# Altium integrated library Silicon Labs Low-Power MCUs.IntLib: 64 symbols (part 2 of 4)
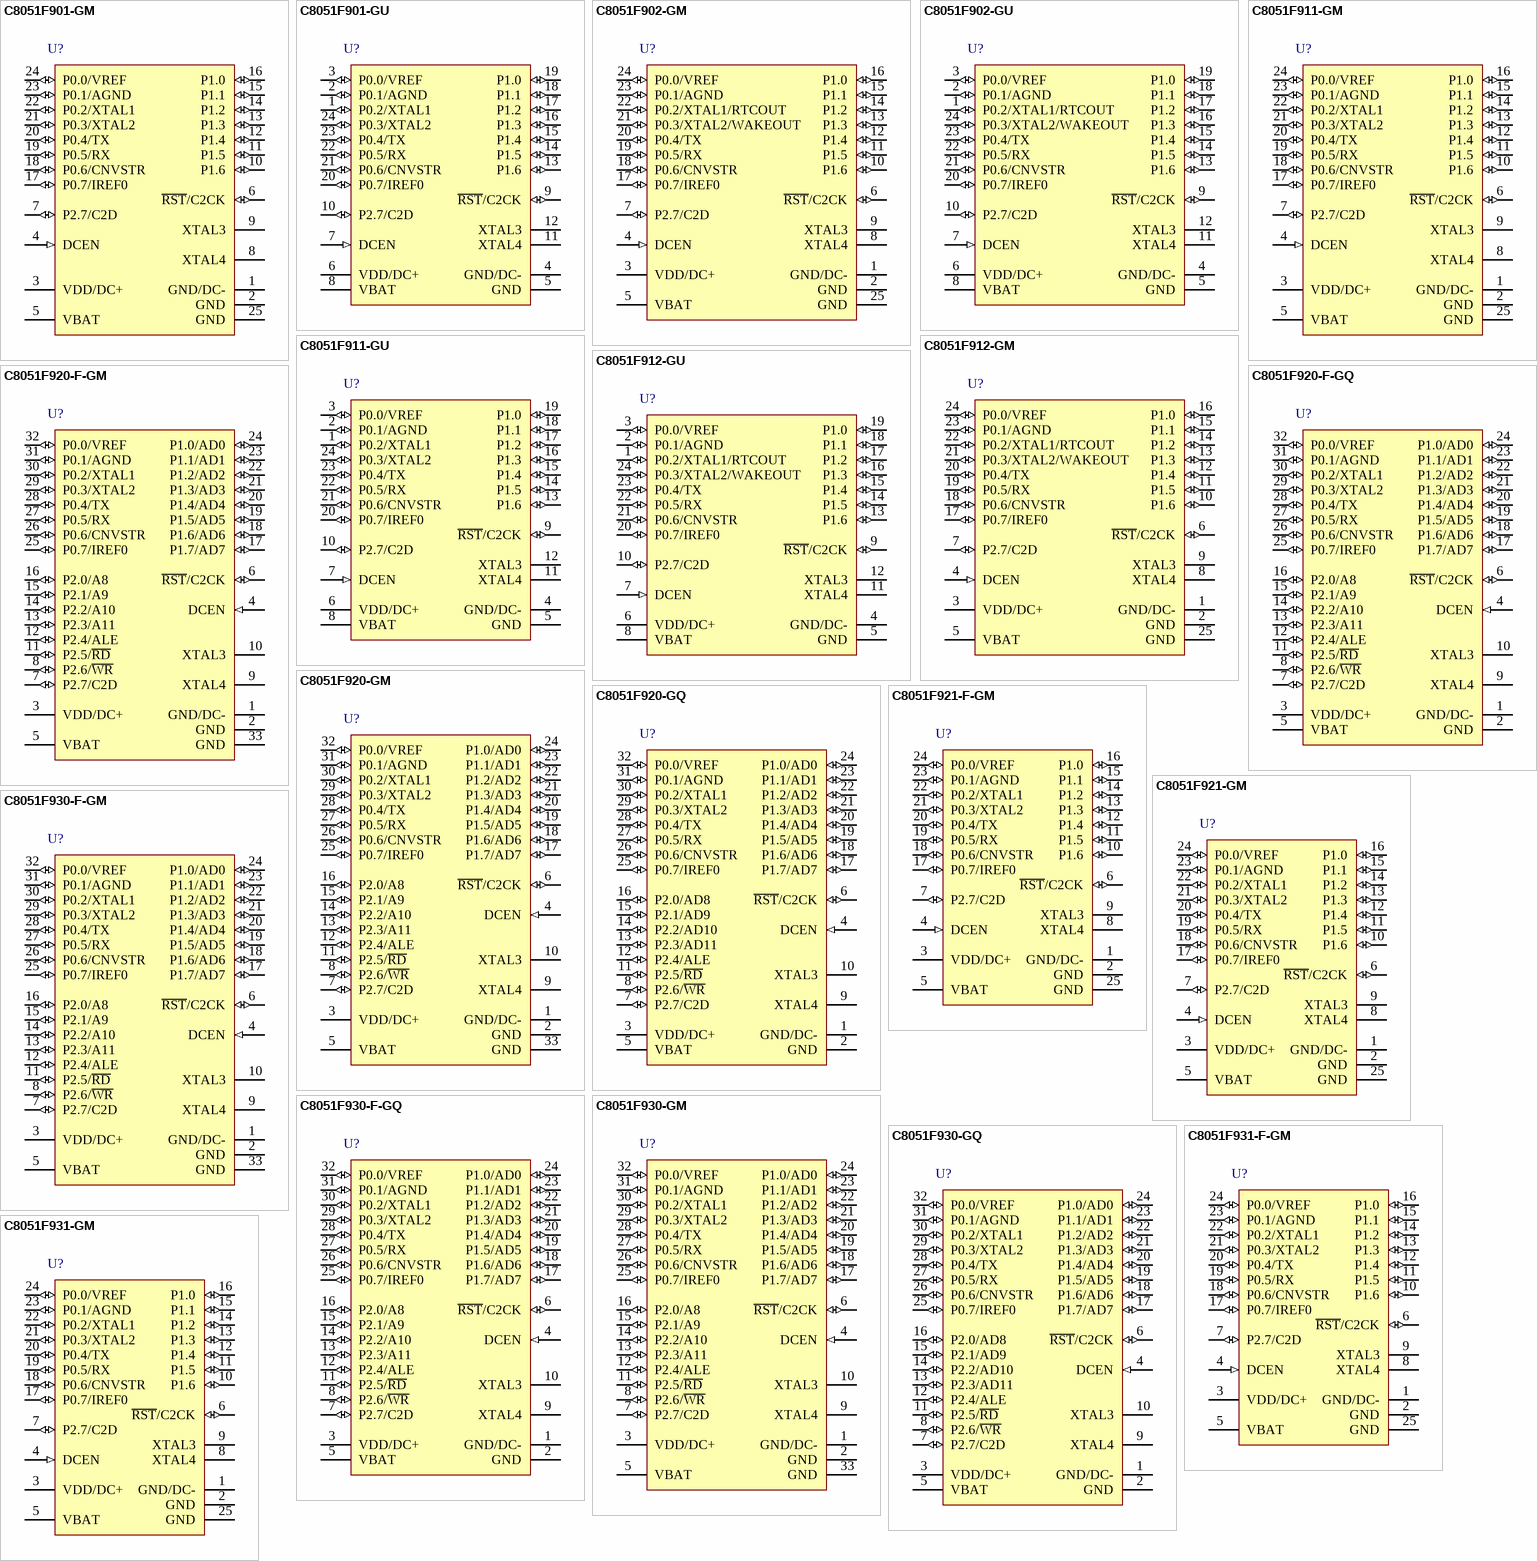
[diagram p6: symbols C8051F901-GM to C8051F931-GM]

## C8051F931-F-GM
designator U?
Single / Dual Battery, 0.9 to 3.6 V, smaRTClock, 10-Bit ADC MCU, 25 MHz, 4.25 kB RAM, 64 kB Flash, -40 to 85 degC, 24-pin QFN; Manufacturer: Silicon Labs; PartNumber: C8051F931-F-GM; ADC 1: 10-bit, 15-ch., 300 ksps; AEC-Q100: FALSE; Comparators: 2; Debug Interface: C2; Dig I/O Pins: 16; Flash: 64 kB; Internal Osc. Accuracy: +/-2%; MCU Core: 8051; MHz: 25; PCA Channels: 6; RAM: 4.25 kB; Temp Sensor: TRUE; Timers (16-bit): 4; Sub-Family: Low-Power MCUs; DatasheetVersion: Rev. 1.3; PackageReference: QFN-24; PackageDescription: 24-Pin Quad-Flat No-Leads Package, Body 4 x 4 mm, Pitch 0.5 mm; Supplier 1: Digi-Key; Supplier Part Number 1: C8051F931-F-GM-ND; Supplier 2: Mouser; Supplier Part Number 2: 634-C8051F931-F-GM; Mounting Technology: Surface Mount; Code_JEDEC: MO-220; Code_IPC: J-STD-020; ComponentLink1Description: Manufacturer URL; ComponentLink1URL: http://www.silabs.com/; ComponentLink2Description: Datasheet; ComponentLink2URL: http://www.silabs.com/Support Documents/TechnicalDocs/C8051F96x.pdf; ComponentLink3Description: Package Specification; ComponentLink3URL: http://www.silabs.com/Support%20Documents/TechnicalDocs/C8051F93x-92x.pdf
footprint SLAB-QFN-24-2675x2675TP_N (QFN, 24-Leads, Body 4x4mm, Pitch 0.5mm, Thermal Pad 2.68x2.68mm, IPC Medium Density)
footprint SLAB-QFN-24-2675x2675TP_L (QFN, 24-Leads, Body 4x4mm, Pitch 0.5mm, Thermal Pad 2.68x2.68mm, IPC High Density)
footprint SLAB-QFN-24-2675x2675TP_M (QFN, 24-Leads, Body 4x4mm, Pitch 0.5mm, Thermal Pad 2.68x2.68mm, IPC Low Density)
pins: 1 GND/DC- (power), 2 GND (power) "Required Ground.", 3 VDD/DC+ (power), 4 DCEN (in) "DC-DC Enable Pin. In single-cell battery mode, this pin  must be connected to VBAT through a 0.68 uH inductor. In dual-cell battery mode, this pin must be connected  directly to ground.", 5 VBAT (power) "Battery Supply Voltage. Must be 0.9 to 1.8 V in single-cell  battery mode and 1.8 to 3.6 V in dual-cell battery mode.", 6 ~{RST}/C2CK (io), 7 P2.7/C2D (io), 8 XTAL4 "SmaRTClock Oscillator Crystal Output. See Section 20 for a complete description.", 9 XTAL3 "SmaRTClock Oscillator Crystal Input. See Section 20 for a complete description", 10 P1.6 (io) "Port 1.6. See Port I/O Section for a complete description", 11 P1.5 (io) "Port 1.5. See Port I/O Section for a complete description.", 12 P1.4 (io) "Port 1.4. See Port I/O Section for a complete description.", 13 P1.3 (io) "Port 1.3. See Port I/O Section for a complete description. May also be used as NSS for SPI1.", 14 P1.2 (io) "Port 1.2. See Port I/O Section for a complete description. May also be used as MOSI for SPI1.", 15 P1.1 (io) "Port 1.1. See Port I/O Section for a complete description. May also be used as MISO for SPI1.", 16 P1.0 (io) "Port 1.0. See Port I/O Section for a complete description.  May also be used as SCK for SPI1.", 17 P0.7/IREF0 (io), 18 P0.6/CNVSTR (io), 19 P0.5/RX (io), 20 P0.4/TX (io), 21 P0.3/XTAL2 (io), 22 P0.2/XTAL1 (io), 23 P0.1/AGND (io), 24 P0.0/VREF (io), 25 GND (power) "Required Ground."

## C8051F931-GM
designator U?
Single / Dual Battery, 0.9 to 3.6 V, smaRTClock, 10-Bit ADC MCU, 25 MHz, 4.25 kB RAM, 64 kB Flash, -40 to 85 degC, 24-pin QFN; Manufacturer: Silicon Labs; PartNumber: C8051F931-GM; ADC 1: 10-bit, 15-ch., 300 ksps; AEC-Q100: FALSE; Comparators: 2; Debug Interface: C2; Dig I/O Pins: 16; Flash: 64 kB; Internal Osc. Accuracy: +/-2%; MCU Core: 8051; MHz: 25; PCA Channels: 6; RAM: 4.25 kB; Temp Sensor: TRUE; Timers (16-bit): 4; Sub-Family: Low-Power MCUs; DatasheetVersion: Rev. 1.3; PackageReference: QFN-24; PackageDescription: 24-Pin Quad-Flat No-Leads Package, Body 4 x 4 mm, Pitch 0.5 mm; Supplier 1: Digi-Key; Supplier Part Number 1: 336-1468-ND; Supplier 2: Mouser; Supplier Part Number 2: 634-C8051F931-GM; Mounting Technology: Surface Mount; Code_JEDEC: MO-220; Code_IPC: J-STD-020; ComponentLink1Description: Manufacturer URL; ComponentLink1URL: http://www.silabs.com/; ComponentLink2Description: Datasheet; ComponentLink2URL: http://www.silabs.com/Support Documents/TechnicalDocs/C8051F93x-92x.pdf; ComponentLink3Description: Package Specification; ComponentLink3URL: http://www.silabs.com/Support%20Documents/TechnicalDocs/C8051F93x-92x.pdf
footprint SLAB-QFN-24-2675x2675TP_N (QFN, 24-Leads, Body 4x4mm, Pitch 0.5mm, Thermal Pad 2.68x2.68mm, IPC Medium Density)
footprint SLAB-QFN-24-2675x2675TP_L (QFN, 24-Leads, Body 4x4mm, Pitch 0.5mm, Thermal Pad 2.68x2.68mm, IPC High Density)
footprint SLAB-QFN-24-2675x2675TP_M (QFN, 24-Leads, Body 4x4mm, Pitch 0.5mm, Thermal Pad 2.68x2.68mm, IPC Low Density)
pins: 1 GND/DC- (power), 2 GND (power) "Required Ground.", 3 VDD/DC+ (power), 4 DCEN (in) "DC-DC Enable Pin. In single-cell battery mode, this pin  must be connected to VBAT through a 0.68 uH inductor. In dual-cell battery mode, this pin must be connected  directly to ground.", 5 VBAT (power) "Battery Supply Voltage. Must be 0.9 to 1.8 V in single-cell  battery mode and 1.8 to 3.6 V in dual-cell battery mode.", 6 ~{RST}/C2CK (io), 7 P2.7/C2D (io), 8 XTAL4 "SmaRTClock Oscillator Crystal Output. See Section 20 for a complete description.", 9 XTAL3 "SmaRTClock Oscillator Crystal Input. See Section 20 for a complete description", 10 P1.6 (io) "Port 1.6. See Port I/O Section for a complete description", 11 P1.5 (io) "Port 1.5. See Port I/O Section for a complete description.", 12 P1.4 (io) "Port 1.4. See Port I/O Section for a complete description.", 13 P1.3 (io) "Port 1.3. See Port I/O Section for a complete description. May also be used as NSS for SPI1.", 14 P1.2 (io) "Port 1.2. See Port I/O Section for a complete description. May also be used as MOSI for SPI1.", 15 P1.1 (io) "Port 1.1. See Port I/O Section for a complete description. May also be used as MISO for SPI1.", 16 P1.0 (io) "Port 1.0. See Port I/O Section for a complete description.  May also be used as SCK for SPI1.", 17 P0.7/IREF0 (io), 18 P0.6/CNVSTR (io), 19 P0.5/RX (io), 20 P0.4/TX (io), 21 P0.3/XTAL2 (io), 22 P0.2/XTAL1 (io), 23 P0.1/AGND (io), 24 P0.0/VREF (io), 25 GND (power) "Required Ground."

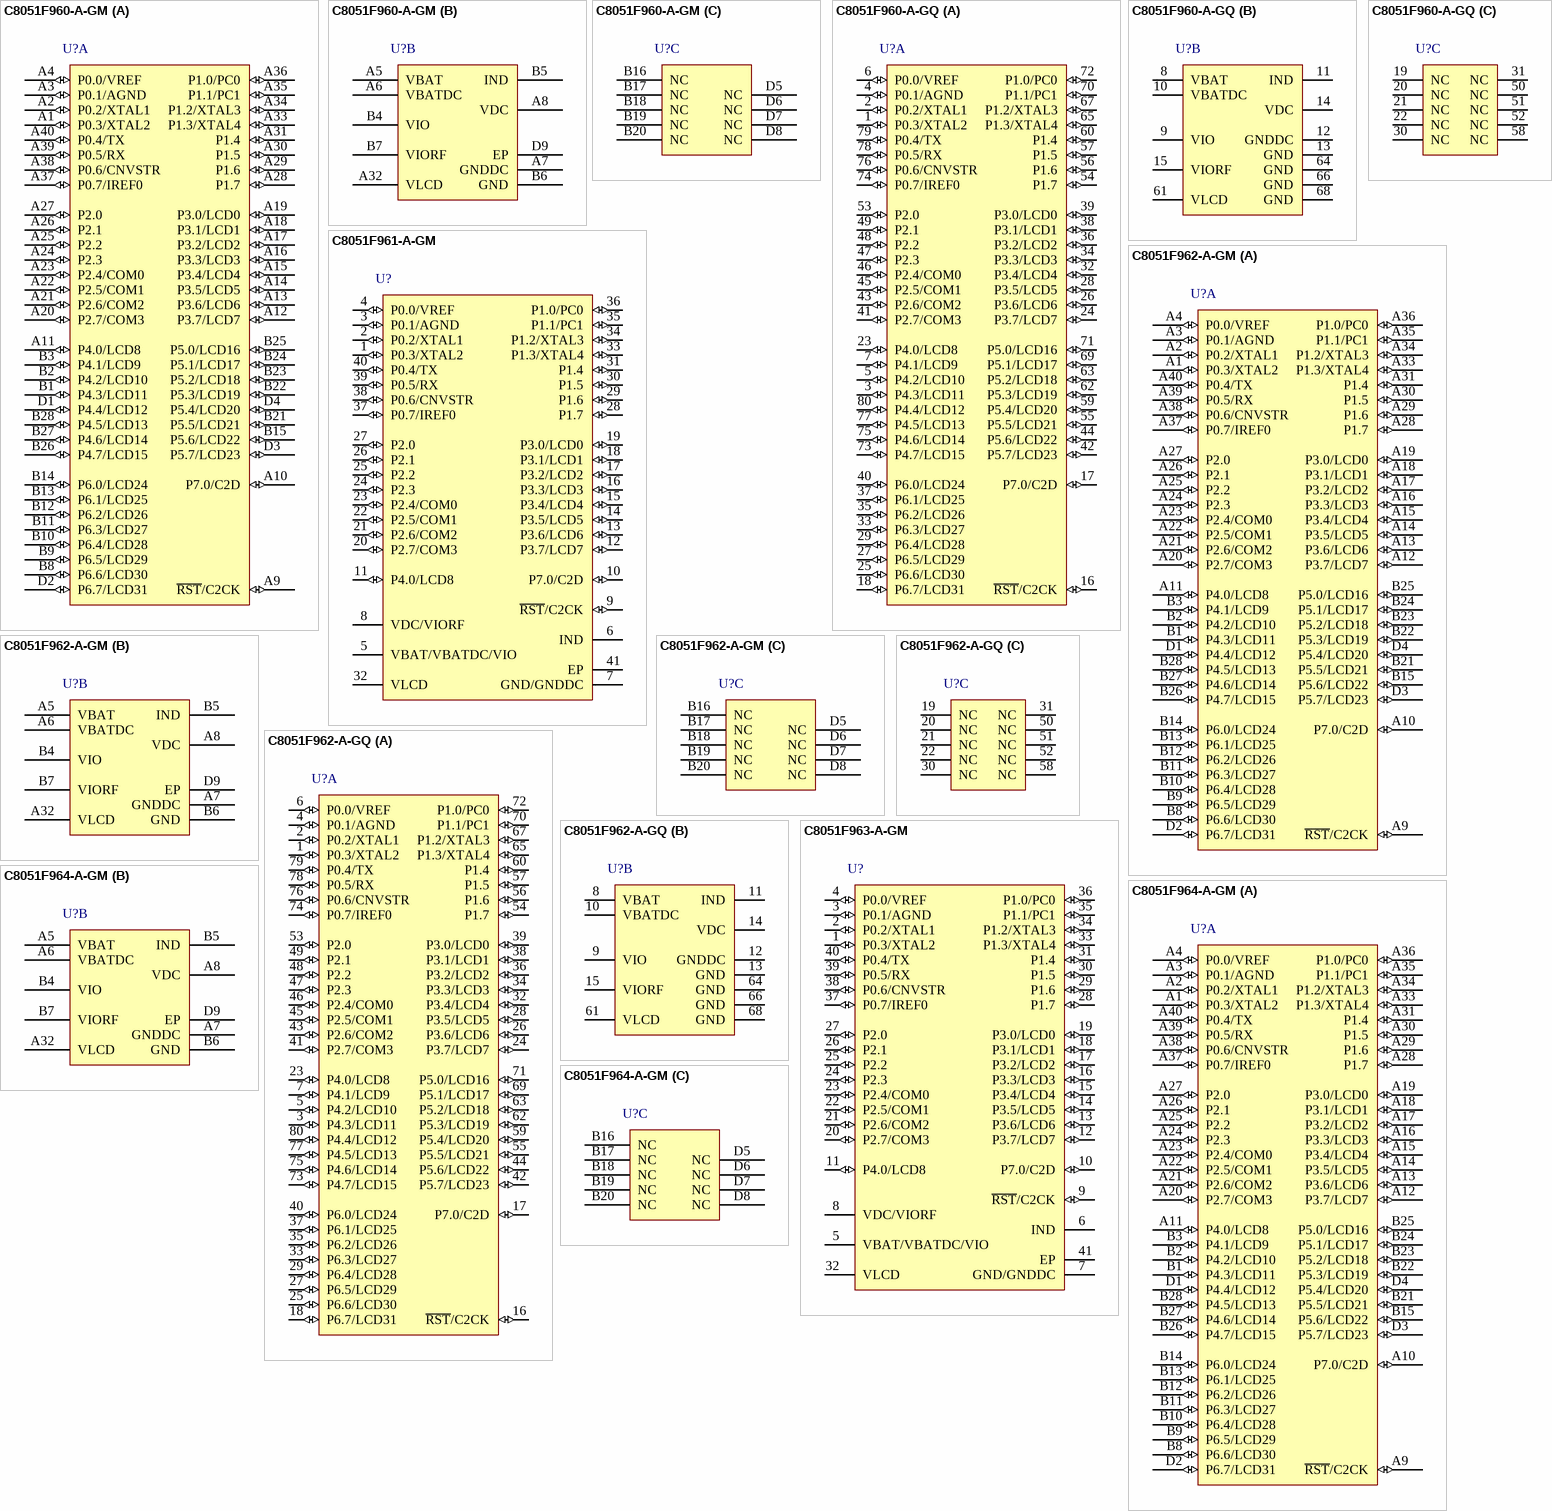
[diagram p1: symbols C8051F960-A-GM to C8051F964-A-GM]

## C8051F960-A-GM
designator U?
Ultra Low Power, LCD MCU Family, 25 MHz, 8.25 kB RAM, 128 kB Flash, -40 to 85 degC, 76-pin DQFN; Manufacturer: Silicon Labs; PartNumber: C8051F960-A-GM; ADC 1: 12-bit, 16-ch., 75 ksps; AEC-Q100: FALSE; Comparators: 2; Debug Interface: C2; Dig I/O Pins: 57; Flash: 128 kB; Internal Osc. Accuracy: +/-2%; MCU Core: 8051; MHz: 25; PCA Channels: 6; RAM: 8.25 KB; Temp Sensor: TRUE; Timers (16-bit): 4; Sub-Family: Low-Power MCUs; DatasheetVersion: Rev. 0.5; PackageReference: DQFN-76; PackageDescription: 76-Pin DQFN, Body 6 x 6 mm, Pitch 0.5 mm; Supplier 1: Digi-Key; Supplier Part Number 1: 336-2238-ND; Supplier 2: Mouser; Supplier Part Number 2: 634-C8051F960-A-GM; Mounting Technology: Surface Mount; Code_IPC: J-STD-020; ComponentLink1Description: Manufacturer URL; ComponentLink1URL: http://www.silabs.com/; ComponentLink2Description: Datasheet; ComponentLink2URL: http://www.silabs.com/Support Documents/TechnicalDocs/C8051F96x.pdf; ComponentLink3Description: Package Specification; ComponentLink3URL: http://www.silabs.com/Support%20Documents/TechnicalDocs/C8051F96x.pdf
footprint SLAB-DQFN-76-3100x3100TP_V (DQFN, 76-Leads, Body 6x6mm, Pitch 0.5mm, Thermal Pad 3.2x3.2mm)
part A pins: A1 P0.3/XTAL2 (io), A2 P0.2/XTAL1 (io), A3 P0.1/AGND (io), A4 P0.0/VREF (io), A9 ~{RST}/C2CK (io), A10 P7.0/C2D (io), A11 P4.0/LCD8 (io), A12 P3.7/LCD7 (io), A13 P3.6/LCD6 (io), A14 P3.5/LCD5 (io), A15 P3.4/LCD4 (io), A16 P3.3/LCD3 (io), A17 P3.2/LCD2 (io), A18 P3.1/LCD1 (io), A19 P3.0/LCD0 (io), A20 P2.7/COM3 (io), A21 P2.6/COM2 (io), A22 P2.5/COM1 (io), A23 P2.4/COM0 (io), A24 P2.3 (io) "Port 2.3. See Port I/O Section for a complete description.", A25 P2.2 (io) "Port 2.2. See Port I/O Section for a complete description.", A26 P2.1 (io) "Port 2.1. See Port I/O Section for a complete description.", A27 P2.0 (io) "Port 2.0. See Port I/O Section for a complete description.", A28 P1.7 (io) "Port 1.7. See Port I/O Section for a complete description.", A29 P1.6 (io) "Port 1.6. See Port I/O Section for a complete description.", A30 P1.5 (io) "Port 1.5. See Port I/O Section for a complete description.", A31 P1.4 (io) "Port 1.4. See Port I/O Section for a complete description.", A33 P1.3/XTAL4 (io), A34 P1.2/XTAL3 (io), A35 P1.1/PC1 (io), A36 P1.0/PC0 (io), A37 P0.7/IREF0 (io), A38 P0.6/CNVSTR (io), A39 P0.5/RX (io), A40 P0.4/TX (io), B1 P4.3/LCD11 (io), B2 P4.2/LCD10 (io), B3 P4.1/LCD9 (io), B8 P6.6/LCD30 (io), B9 P6.5/LCD29 (io), B10 P6.4/LCD28 (io), B11 P6.3/LCD27 (io), B12 P6.2/LCD26 (io), B13 P6.1/LCD25 (io), B14 P6.0/LCD24 (io), B15 P5.6/LCD22 (io), B21 P5.5/LCD21 (io), B22 P5.3/LCD19 (io), B23 P5.2/LCD18 (io), B24 P5.1/LCD17 (io), B25 P5.0/LCD16 (io), B26 P4.7/LCD15 (io), B27 P4.6/LCD14 (io), B28 P4.5/LCD13 (io), D1 P4.4/LCD12 (io), D2 P6.7/LCD31 (io), D3 P5.7/LCD23 (io), D4 P5.4/LCD20 (io)
part B pins: A5 VBAT (power) "Battery Supply Voltage. Must be 1.8 to 3.6 V.", A6 VBATDC (power) "DC0 Input Voltage. Must be 1.8 to 3.6 V.", A7 GNDDC (power) "DC-DC converter return current path. This pin is typically tied to the ground plane.", A8 VDC (power) "Alternate Power Supply Voltage. Must be 1.8 to 3.6V. This supply voltage must always be <= VBAT. Software may select this supply voltage to power the digital logic. Positive output of the dc-dc converter. A 1uF to 10u(See Datasheet)", A32 VLCD (power) "CD Power Supply. This pin requires a 10 uF capacitor to stabilize the charge pump.", B4 VIO (power) "I/O Power Supply for P0.0-P1.4 and P2.4-P7.0 pins. This supply voltage must always be <= VBAT.", B5 IND "DC-DC Inductor Pin. This pin requires a 560 nH inductor to VDC if the dc-dc converter is used.", B6 GND (power) "DC-DC converter return current path. This pin is typically tied to the ground plane.", B7 VIORF (power) "I/O Power Supply for P1.5-P2.3 pins. This supply voltage must always be <= VBAT.", D9 EP
part C pins: B16 NC, B17 NC, B18 NC, B19 NC, B20 NC, D5 NC, D6 NC, D7 NC, D8 NC

## C8051F960-A-GQ
designator U?
Ultra Low Power, LCD MCU Family, 25 MHz, 8.25 kB RAM, 128 kB Flash, -40 to 85 degC, 80-pin QFP; Manufacturer: Silicon Labs; PartNumber: C8051F960-A-GQ; ADC 1: 12-bit, 16-ch., 75 ksps; AEC-Q100: FALSE; Comparators: 2; Debug Interface: C2; Dig I/O Pins: 57; Flash: 128 kB; Internal Osc. Accuracy: +/-2%; MCU Core: 8051; MHz: 25; PCA Channels: 6; RAM: 8.25 KB; Temp Sensor: TRUE; Timers (16-bit): 4; Sub-Family: Low-Power MCUs; DatasheetVersion: Rev. 0.5; PackageReference: TQFP-80; PackageDescription: 80-Pin Thin Quad Flat Package, Body 12 x 12 mm, Pitch 0.5 mm; Supplier 1: Digi-Key; Supplier Part Number 1: 336-2254-5-ND; Supplier 2: Mouser; Supplier Part Number 2: 634-C8051F960-A-GQ; Mounting Technology: Surface Mount; Code_JEDEC: MS-026; Code_IPC: J-STD-020; ComponentLink1Description: Manufacturer URL; ComponentLink1URL: http://www.silabs.com/; ComponentLink2Description: Datasheet; ComponentLink2URL: http://www.silabs.com/Support%20Documents/TechnicalDocs/C8051F96x.pdf; ComponentLink3Description: Package Specification; ComponentLink3URL: http://www.silabs.com/Support%20Documents/TechnicalDocs/SiM3L1xx.pdf
footprint SLAB-TQFP-80_N (QFP, 80-Leads, Body 12x12mm, Pitch 0.5mm, IPC Medium Density)
footprint SLAB-TQFP-80_L (QFP, 80-Leads, Body 12x12mm, Pitch 0.5mm, IPC High Density)
footprint SLAB-TQFP-80_M (QFP, 80-Leads, Body 12x12mm, Pitch 0.5mm, IPC Low Density)
part A pins: 1 P0.3/XTAL2 (io), 2 P0.2/XTAL1 (io), 3 P4.3/LCD11 (io), 4 P0.1/AGND (io), 5 P4.2/LCD10 (io), 6 P0.0/VREF (io), 7 P4.1/LCD9 (io), 16 ~{RST}/C2CK (io), 17 P7.0/C2D (io), 18 P6.7/LCD31 (io), 23 P4.0/LCD8 (io), 24 P3.7/LCD7 (io), 25 P6.6/LCD30 (io), 26 P3.6/LCD6 (io), 27 P6.5/LCD29 (io), 28 P3.5/LCD5 (io), 29 P6.4/LCD28 (io), 32 P3.4/LCD4 (io), 33 P6.3/LCD27 (io), 34 P3.3/LCD3 (io), 35 P6.2/LCD26 (io), 36 P3.2/LCD2 (io), 37 P6.1/LCD25 (io), 38 P3.1/LCD1 (io), 39 P3.0/LCD0 (io), 40 P6.0/LCD24 (io), 41 P2.7/COM3 (io), 42 P5.7/LCD23 (io), 43 P2.6/COM2 (io), 44 P5.6/LCD22 (io), 45 P2.5/COM1 (io), 46 P2.4/COM0 (io), 47 P2.3 (io) "Port 2.3. See Port I/O Section for a complete description.", 48 P2.2 (io) "Port 2.2. See Port I/O Section for a complete description.", 49 P2.1 (io) "Port 2.1. See Port I/O Section for a complete description.", 53 P2.0 (io) "Port 2.0. See Port I/O Section for a complete description.", 54 P1.7 (io) "Port 1.7. See Port I/O Section for a complete description.", 55 P5.5/LCD21 (io), 56 P1.6 (io) "Port 1.6. See Port I/O Section for a complete description.", 57 P1.5 (io) "Port 1.5. See Port I/O Section for a complete description.", 59 P5.4/LCD20 (io), 60 P1.4 (io) "Port 1.4. See Port I/O Section for a complete description.", 62 P5.3/LCD19 (io), 63 P5.2/LCD18 (io), 65 P1.3/XTAL4 (io), 67 P1.2/XTAL3 (io), 69 P5.1/LCD17 (io), 70 P1.1/PC1 (io), 71 P5.0/LCD16 (io), 72 P1.0/PC0 (io), 73 P4.7/LCD15 (io), 74 P0.7/IREF0 (io), 75 P4.6/LCD14 (io), 76 P0.6/CNVSTR (io), 77 P4.5/LCD13 (io), 78 P0.5/RX (io), 79 P0.4/TX (io), 80 P4.4/LCD12 (io)
part B pins: 8 VBAT (power) "Battery Supply Voltage. Must be 1.8 to 3.6 V.", 9 VIO (power) "I/O Power Supply for P0.0-P1.4 and P2.4-P7.0 pins. This supply voltage must always be <= VBAT.", 10 VBATDC (power) "DC0 Input Voltage. Must be 1.8 to 3.6 V.", 11 IND "DC-DC Inductor Pin. This pin requires a 560 nH inductor to VDC if the dc-dc converter is used.", 12 GNDDC (power) "DC-DC converter return current path. This pin is typically tied to the ground plane.", 13 GND (power) "Required Ground.", 14 VDC (power) "Alternate Power Supply Voltage. Must be 1.8 to 3.6V. This supply voltage must always be ? VBAT. Software may select this supply voltage to power the digital logic. Positive output of the dc-dc converter. A 1uF to 10u(See Datasheet)", 15 VIORF (power) "I/O Power Supply for P1.5-P2.3 pins. This supply voltage must always be <= VBAT.", 61 VLCD (power) "CD Power Supply. This pin requires a 10 uF capacitor to stabilize the charge pump.", 64 GND (power) "Required Ground.", 66 GND (power) "Required Ground.", 68 GND (power) "Required Ground."
part C pins: 19 NC, 20 NC, 21 NC, 22 NC, 30 NC, 31 NC, 50 NC, 51 NC, 52 NC, 58 NC

## C8051F961-A-GM
designator U?
Ultra Low Power, LCD MCU Family, 25 MHz, 8.25 kB RAM, 128 kB Flash, -40 to 85 degC, 40-pin QFN; Manufacturer: Silicon Labs; PartNumber: C8051F961-A-GM; ADC 1: 12-bit, 16-ch., 75 ksps; AEC-Q100: FALSE; Comparators: 2; Debug Interface: C2; Dig I/O Pins: 34; Flash: 128 kB; Internal Osc. Accuracy: +/-2%; MCU Core: 8051; MHz: 25; PCA Channels: 6; RAM: 8.25 KB; Temp Sensor: TRUE; Timers (16-bit): 4; Sub-Family: Low-Power MCUs; DatasheetVersion: Rev. 0.5; PackageReference: QFN-40; PackageDescription: 40-Pin Quad-Flat No-Leads Package, Body 6 x 6 mm, Pitch 0.5 mm; Supplier 1: Digi-Key; Supplier Part Number 1: 336-2239-ND; Supplier 2: Mouser; Supplier Part Number 2: 634-C8051F961-A-GM; Mounting Technology: Surface Mount; Code_JEDEC: MO-220; Code_IPC: J-STD-020; ComponentLink1Description: Manufacturer URL; ComponentLink1URL: http://www.silabs.com/; ComponentLink2Description: Datasheet; ComponentLink2URL: http://www.silabs.com/Support Documents/TechnicalDocs/C8051F96x.pdf; ComponentLink3Description: Package Specification; ComponentLink3URL: http://www.silabs.com/Support Documents/TechnicalDocs/C8051F50x-51x.pdf
footprint SLAB-QFN-40-4100x4100TP_N (QFN, 40-Leads, Body 6x6mm, Pitch 0.5mm, Thermal Pad 4.1x4.1mm, IPC Medium Density)
footprint SLAB-QFN-40-4100x4100TP_L (QFN, 40-Leads, Body 6x6mm, Pitch 0.5mm, Thermal Pad 4.1x4.1mm, IPC High Density)
footprint SLAB-QFN-40-4100x4100TP_M (QFN, 40-Leads, Body 6x6mm, Pitch 0.5mm, Thermal Pad 4.1x4.1mm, IPC Low Density)
pins: 1 P0.3/XTAL2 (io), 2 P0.2/XTAL1 (io), 3 P0.1/AGND (io), 4 P0.0/VREF (io), 5 VBAT/VBATDC/VIO (power), 6 IND "DC-DC Inductor Pin. This pin requires a 560 nH inductor to VDC if the dc-dc converter is used.", 7 GND/GNDDC (power) "DC-DC converter return current path. This pin is typically tied to the ground plane.", 8 VDC/VIORF (power), 9 ~{RST}/C2CK (io), 10 P7.0/C2D (io), 11 P4.0/LCD8 (io), 12 P3.7/LCD7 (io), 13 P3.6/LCD6 (io), 14 P3.5/LCD5 (io), 15 P3.4/LCD4 (io), 16 P3.3/LCD3 (io), 17 P3.2/LCD2 (io), 18 P3.1/LCD1 (io), 19 P3.0/LCD0 (io), 20 P2.7/COM3 (io), 21 P2.6/COM2 (io), 22 P2.5/COM1 (io), 23 P2.4/COM0 (io), 24 P2.3 (io) "Port 2.3. See Port I/O Section for a complete description.", 25 P2.2 (io) "Port 2.2. See Port I/O Section for a complete description.", 26 P2.1 (io) "Port 2.1. See Port I/O Section for a complete description.", 27 P2.0 (io) "Port 2.0. See Port I/O Section for a complete description.", 28 P1.7 (io) "Port 1.7. See Port I/O Section for a complete description.", 29 P1.6 (io) "Port 1.6. See Port I/O Section for a complete description.", 30 P1.5 (io) "Port 1.5. See Port I/O Section for a complete description.", 31 P1.4 (io) "Port 1.4. See Port I/O Section for a complete description.", 32 VLCD (power) "CD Power Supply. This pin requires a 10 uF capacitor to stabilize the charge pump.", 33 P1.3/XTAL4 (io), 34 P1.2/XTAL3 (io), 35 P1.1/PC1 (io), 36 P1.0/PC0 (io), 37 P0.7/IREF0 (io), 38 P0.6/CNVSTR (io), 39 P0.5/RX (io), 40 P0.4/TX (io), 41 EP (power)

## C8051F962-A-GM
designator U?
Ultra Low Power, LCD MCU Family, 25 MHz, 8.25 kB RAM, 128 kB Flash, -40 to 85 degC, 76-pin DQFN; Manufacturer: Silicon Labs; PartNumber: C8051F962-A-GM; ADC 1: 12-bit, 16-ch., 75 ksps; AEC-Q100: FALSE; Comparators: 2; Debug Interface: C2; Dig I/O Pins: 57; Flash: 128 kB; Internal Osc. Accuracy: +/-2%; MCU Core: 8051; MHz: 25; PCA Channels: 6; RAM: 8.25 KB; Temp Sensor: TRUE; Timers (16-bit): 4; Sub-Family: Low-Power MCUs; DatasheetVersion: Rev. 0.5; PackageReference: DQFN-76; PackageDescription: 76-Pin DQFN, Body 6 x 6 mm, Pitch 0.5 mm; Supplier 1: Digi-Key; Supplier Part Number 1: 336-2240-ND; Supplier 2: Mouser; Supplier Part Number 2: 634-C8051F962-A-GM; Mounting Technology: Surface Mount; Code_IPC: J-STD-020; ComponentLink1Description: Manufacturer URL; ComponentLink1URL: http://www.silabs.com/; ComponentLink2Description: Datasheet; ComponentLink2URL: http://www.silabs.com/Support Documents/TechnicalDocs/C8051F96x.pdf; ComponentLink3Description: Package Specification; ComponentLink3URL: http://www.silabs.com/Support%20Documents/TechnicalDocs/C8051F96x.pdf
footprint SLAB-DQFN-76-3100x3100TP_V (DQFN, 76-Leads, Body 6x6mm, Pitch 0.5mm, Thermal Pad 3.2x3.2mm)
part A pins: A1 P0.3/XTAL2 (io), A2 P0.2/XTAL1 (io), A3 P0.1/AGND (io), A4 P0.0/VREF (io), A9 ~{RST}/C2CK (io), A10 P7.0/C2D (io), A11 P4.0/LCD8 (io), A12 P3.7/LCD7 (io), A13 P3.6/LCD6 (io), A14 P3.5/LCD5 (io), A15 P3.4/LCD4 (io), A16 P3.3/LCD3 (io), A17 P3.2/LCD2 (io), A18 P3.1/LCD1 (io), A19 P3.0/LCD0 (io), A20 P2.7/COM3 (io), A21 P2.6/COM2 (io), A22 P2.5/COM1 (io), A23 P2.4/COM0 (io), A24 P2.3 (io) "Port 2.3. See Port I/O Section for a complete description.", A25 P2.2 (io) "Port 2.2. See Port I/O Section for a complete description.", A26 P2.1 (io) "Port 2.1. See Port I/O Section for a complete description.", A27 P2.0 (io) "Port 2.0. See Port I/O Section for a complete description.", A28 P1.7 (io) "Port 1.7. See Port I/O Section for a complete description.", A29 P1.6 (io) "Port 1.6. See Port I/O Section for a complete description.", A30 P1.5 (io) "Port 1.5. See Port I/O Section for a complete description.", A31 P1.4 (io) "Port 1.4. See Port I/O Section for a complete description.", A33 P1.3/XTAL4 (io), A34 P1.2/XTAL3 (io), A35 P1.1/PC1 (io), A36 P1.0/PC0 (io), A37 P0.7/IREF0 (io), A38 P0.6/CNVSTR (io), A39 P0.5/RX (io), A40 P0.4/TX (io), B1 P4.3/LCD11 (io), B2 P4.2/LCD10 (io), B3 P4.1/LCD9 (io), B8 P6.6/LCD30 (io), B9 P6.5/LCD29 (io), B10 P6.4/LCD28 (io), B11 P6.3/LCD27 (io), B12 P6.2/LCD26 (io), B13 P6.1/LCD25 (io), B14 P6.0/LCD24 (io), B15 P5.6/LCD22 (io), B21 P5.5/LCD21 (io), B22 P5.3/LCD19 (io), B23 P5.2/LCD18 (io), B24 P5.1/LCD17 (io), B25 P5.0/LCD16 (io), B26 P4.7/LCD15 (io), B27 P4.6/LCD14 (io), B28 P4.5/LCD13 (io), D1 P4.4/LCD12 (io), D2 P6.7/LCD31 (io), D3 P5.7/LCD23 (io), D4 P5.4/LCD20 (io)
part B pins: A5 VBAT (power) "Battery Supply Voltage. Must be 1.8 to 3.6 V.", A6 VBATDC (power) "DC0 Input Voltage. Must be 1.8 to 3.6 V.", A7 GNDDC (power) "DC-DC converter return current path. This pin is typically tied to the ground plane.", A8 VDC (power) "Alternate Power Supply Voltage. Must be 1.8 to 3.6V. This supply voltage must always be <= VBAT. Software may select this supply voltage to power the digital logic. Positive output of the dc-dc converter. A 1uF to 10u(See Datasheet)", A32 VLCD (power) "CD Power Supply. This pin requires a 10 uF capacitor to stabilize the charge pump.", B4 VIO (power) "I/O Power Supply for P0.0-P1.4 and P2.4-P7.0 pins. This supply voltage must always be <= VBAT.", B5 IND "DC-DC Inductor Pin. This pin requires a 560 nH inductor to VDC if the dc-dc converter is used.", B6 GND (power) "DC-DC converter return current path. This pin is typically tied to the ground plane.", B7 VIORF (power) "I/O Power Supply for P1.5-P2.3 pins. This supply voltage must always be <= VBAT.", D9 EP
part C pins: B16 NC, B17 NC, B18 NC, B19 NC, B20 NC, D5 NC, D6 NC, D7 NC, D8 NC

## C8051F962-A-GQ
designator U?
Ultra Low Power, LCD MCU Family, 25 MHz, 8.25 kB RAM, 128 kB Flash, -40 to 85 degC, 80-pin QFP; Manufacturer: Silicon Labs; PartNumber: C8051F962-A-GQ; ADC 1: 12-bit, 16-ch., 75 ksps; AEC-Q100: FALSE; Comparators: 2; Debug Interface: C2; Dig I/O Pins: 57; Flash: 128 kB; Internal Osc. Accuracy: +/-2%; MCU Core: 8051; MHz: 25; PCA Channels: 6; RAM: 8.25 KB; Temp Sensor: TRUE; Timers (16-bit): 4; Sub-Family: Low-Power MCUs; DatasheetVersion: Rev. 0.5; PackageReference: TQFP-80; PackageDescription: 80-Pin Thin Quad Flat Package, Body 12 x 12 mm, Pitch 0.5 mm; Supplier 1: Digi-Key; Supplier Part Number 1: 336-2253-5-ND; Supplier 2: Mouser; Supplier Part Number 2: 634-C8051F962-A-GQ; Mounting Technology: Surface Mount; Code_JEDEC: MS-026; Code_IPC: J-STD-020; ComponentLink1Description: Manufacturer URL; ComponentLink1URL: http://www.silabs.com/; ComponentLink2Description: Datasheet; ComponentLink2URL: http://www.silabs.com/Support%20Documents/TechnicalDocs/C8051F96x.pdf; ComponentLink3Description: Package Specification; ComponentLink3URL: http://www.silabs.com/Support%20Documents/TechnicalDocs/SiM3L1xx.pdf
footprint SLAB-TQFP-80_N (QFP, 80-Leads, Body 12x12mm, Pitch 0.5mm, IPC Medium Density)
footprint SLAB-TQFP-80_L (QFP, 80-Leads, Body 12x12mm, Pitch 0.5mm, IPC High Density)
footprint SLAB-TQFP-80_M (QFP, 80-Leads, Body 12x12mm, Pitch 0.5mm, IPC Low Density)
part A pins: 1 P0.3/XTAL2 (io), 2 P0.2/XTAL1 (io), 3 P4.3/LCD11 (io), 4 P0.1/AGND (io), 5 P4.2/LCD10 (io), 6 P0.0/VREF (io), 7 P4.1/LCD9 (io), 16 ~{RST}/C2CK (io), 17 P7.0/C2D (io), 18 P6.7/LCD31 (io), 23 P4.0/LCD8 (io), 24 P3.7/LCD7 (io), 25 P6.6/LCD30 (io), 26 P3.6/LCD6 (io), 27 P6.5/LCD29 (io), 28 P3.5/LCD5 (io), 29 P6.4/LCD28 (io), 32 P3.4/LCD4 (io), 33 P6.3/LCD27 (io), 34 P3.3/LCD3 (io), 35 P6.2/LCD26 (io), 36 P3.2/LCD2 (io), 37 P6.1/LCD25 (io), 38 P3.1/LCD1 (io), 39 P3.0/LCD0 (io), 40 P6.0/LCD24 (io), 41 P2.7/COM3 (io), 42 P5.7/LCD23 (io), 43 P2.6/COM2 (io), 44 P5.6/LCD22 (io), 45 P2.5/COM1 (io), 46 P2.4/COM0 (io), 47 P2.3 (io) "Port 2.3. See Port I/O Section for a complete description.", 48 P2.2 (io) "Port 2.2. See Port I/O Section for a complete description.", 49 P2.1 (io) "Port 2.1. See Port I/O Section for a complete description.", 53 P2.0 (io) "Port 2.0. See Port I/O Section for a complete description.", 54 P1.7 (io) "Port 1.7. See Port I/O Section for a complete description.", 55 P5.5/LCD21 (io), 56 P1.6 (io) "Port 1.6. See Port I/O Section for a complete description.", 57 P1.5 (io) "Port 1.5. See Port I/O Section for a complete description.", 59 P5.4/LCD20 (io), 60 P1.4 (io) "Port 1.4. See Port I/O Section for a complete description.", 62 P5.3/LCD19 (io), 63 P5.2/LCD18 (io), 65 P1.3/XTAL4 (io), 67 P1.2/XTAL3 (io), 69 P5.1/LCD17 (io), 70 P1.1/PC1 (io), 71 P5.0/LCD16 (io), 72 P1.0/PC0 (io), 73 P4.7/LCD15 (io), 74 P0.7/IREF0 (io), 75 P4.6/LCD14 (io), 76 P0.6/CNVSTR (io), 77 P4.5/LCD13 (io), 78 P0.5/RX (io), 79 P0.4/TX (io), 80 P4.4/LCD12 (io)
part B pins: 8 VBAT (power) "Battery Supply Voltage. Must be 1.8 to 3.6 V.", 9 VIO (power) "I/O Power Supply for P0.0-P1.4 and P2.4-P7.0 pins. This supply voltage must always be <= VBAT.", 10 VBATDC (power) "DC0 Input Voltage. Must be 1.8 to 3.6 V.", 11 IND "DC-DC Inductor Pin. This pin requires a 560 nH inductor to VDC if the dc-dc converter is used.", 12 GNDDC (power) "DC-DC converter return current path. This pin is typically tied to the ground plane.", 13 GND (power) "Required Ground.", 14 VDC (power) "Alternate Power Supply Voltage. Must be 1.8 to 3.6V. This supply voltage must always be ? VBAT. Software may select this supply voltage to power the digital logic. Positive output of the dc-dc converter. A 1uF to 10u(See Datasheet)", 15 VIORF (power) "I/O Power Supply for P1.5-P2.3 pins. This supply voltage must always be <= VBAT.", 61 VLCD (power) "CD Power Supply. This pin requires a 10 uF capacitor to stabilize the charge pump.", 64 GND (power) "Required Ground.", 66 GND (power) "Required Ground.", 68 GND (power) "Required Ground."
part C pins: 19 NC, 20 NC, 21 NC, 22 NC, 30 NC, 31 NC, 50 NC, 51 NC, 52 NC, 58 NC

## C8051F963-A-GM
designator U?
Ultra Low Power, LCD MCU Family, 25 MHz, 8.25 kB RAM, 128 kB Flash, -40 to 85 degC, 40-pin QFN; Manufacturer: Silicon Labs; PartNumber: C8051F963-A-GM; ADC 1: 12-bit, 16-ch., 75 ksps; AEC-Q100: FALSE; Comparators: 2; Debug Interface: C2; Dig I/O Pins: 34; Flash: 128 kB; Internal Osc. Accuracy: +/-2%; MCU Core: 8051; MHz: 25; PCA Channels: 6; RAM: 8.25 KB; Temp Sensor: TRUE; Timers (16-bit): 4; Sub-Family: Low-Power MCUs; DatasheetVersion: Rev. 0.5; PackageReference: QFN-40; PackageDescription: 40-Pin Quad-Flat No-Leads Package, Body 6 x 6 mm, Pitch 0.5 mm; Supplier 1: Digi-Key; Supplier Part Number 1: 336-2241-ND; Supplier 2: Mouser; Supplier Part Number 2: 634-C8051F963-A-GM; Mounting Technology: Surface Mount; Code_JEDEC: MO-220; Code_IPC: J-STD-020; ComponentLink1Description: Manufacturer URL; ComponentLink1URL: http://www.silabs.com/; ComponentLink2Description: Datasheet; ComponentLink2URL: http://www.silabs.com/Support Documents/TechnicalDocs/C8051F96x.pdf; ComponentLink3Description: Package Specification; ComponentLink3URL: http://www.silabs.com/Support Documents/TechnicalDocs/C8051F50x-51x.pdf
footprint SLAB-QFN-40-4100x4100TP_N (QFN, 40-Leads, Body 6x6mm, Pitch 0.5mm, Thermal Pad 4.1x4.1mm, IPC Medium Density)
footprint SLAB-QFN-40-4100x4100TP_L (QFN, 40-Leads, Body 6x6mm, Pitch 0.5mm, Thermal Pad 4.1x4.1mm, IPC High Density)
footprint SLAB-QFN-40-4100x4100TP_M (QFN, 40-Leads, Body 6x6mm, Pitch 0.5mm, Thermal Pad 4.1x4.1mm, IPC Low Density)
pins: 1 P0.3/XTAL2 (io), 2 P0.2/XTAL1 (io), 3 P0.1/AGND (io), 4 P0.0/VREF (io), 5 VBAT/VBATDC/VIO (power), 6 IND "DC-DC Inductor Pin. This pin requires a 560 nH inductor to VDC if the dc-dc converter is used.", 7 GND/GNDDC (power) "DC-DC converter return current path. This pin is typically tied to the ground plane.", 8 VDC/VIORF (power), 9 ~{RST}/C2CK (io), 10 P7.0/C2D (io), 11 P4.0/LCD8 (io), 12 P3.7/LCD7 (io), 13 P3.6/LCD6 (io), 14 P3.5/LCD5 (io), 15 P3.4/LCD4 (io), 16 P3.3/LCD3 (io), 17 P3.2/LCD2 (io), 18 P3.1/LCD1 (io), 19 P3.0/LCD0 (io), 20 P2.7/COM3 (io), 21 P2.6/COM2 (io), 22 P2.5/COM1 (io), 23 P2.4/COM0 (io), 24 P2.3 (io) "Port 2.3. See Port I/O Section for a complete description.", 25 P2.2 (io) "Port 2.2. See Port I/O Section for a complete description.", 26 P2.1 (io) "Port 2.1. See Port I/O Section for a complete description.", 27 P2.0 (io) "Port 2.0. See Port I/O Section for a complete description.", 28 P1.7 (io) "Port 1.7. See Port I/O Section for a complete description.", 29 P1.6 (io) "Port 1.6. See Port I/O Section for a complete description.", 30 P1.5 (io) "Port 1.5. See Port I/O Section for a complete description.", 31 P1.4 (io) "Port 1.4. See Port I/O Section for a complete description.", 32 VLCD (power) "CD Power Supply. This pin requires a 10 uF capacitor to stabilize the charge pump.", 33 P1.3/XTAL4 (io), 34 P1.2/XTAL3 (io), 35 P1.1/PC1 (io), 36 P1.0/PC0 (io), 37 P0.7/IREF0 (io), 38 P0.6/CNVSTR (io), 39 P0.5/RX (io), 40 P0.4/TX (io), 41 EP (power)

## C8051F964-A-GM
designator U?
Ultra Low Power, LCD MCU Family, 25 MHz, 8.25 kB RAM, 64 kB Flash, -40 to 85 degC, 76-pin DQFN; Manufacturer: Silicon Labs; PartNumber: C8051F964-A-GM; ADC 1: 12-bit, 16-ch., 75 ksps; AEC-Q100: FALSE; Comparators: 2; Debug Interface: C2; Dig I/O Pins: 57; Flash: 64 kB; Internal Osc. Accuracy: +/-2%; MCU Core: 8051; MHz: 25; PCA Channels: 6; RAM: 8.25 KB; Temp Sensor: TRUE; Timers (16-bit): 4; Sub-Family: Low-Power MCUs; DatasheetVersion: Rev. 0.5; PackageReference: DQFN-76; PackageDescription: 76-Pin DQFN, Body 6 x 6 mm, Pitch 0.5 mm; Supplier 1: Digi-Key; Supplier Part Number 1: 336-2242-ND; Supplier 2: Mouser; Supplier Part Number 2: 634-C8051F964-A-GM; Mounting Technology: Surface Mount; Code_IPC: J-STD-020; ComponentLink1Description: Manufacturer URL; ComponentLink1URL: http://www.silabs.com/; ComponentLink2Description: Datasheet; ComponentLink2URL: http://www.silabs.com/Support Documents/TechnicalDocs/C8051F96x.pdf; ComponentLink3Description: Package Specification; ComponentLink3URL: http://www.silabs.com/Support%20Documents/TechnicalDocs/C8051F96x.pdf
footprint SLAB-DQFN-76-3100x3100TP_V (DQFN, 76-Leads, Body 6x6mm, Pitch 0.5mm, Thermal Pad 3.2x3.2mm)
part A pins: A1 P0.3/XTAL2 (io), A2 P0.2/XTAL1 (io), A3 P0.1/AGND (io), A4 P0.0/VREF (io), A9 ~{RST}/C2CK (io), A10 P7.0/C2D (io), A11 P4.0/LCD8 (io), A12 P3.7/LCD7 (io), A13 P3.6/LCD6 (io), A14 P3.5/LCD5 (io), A15 P3.4/LCD4 (io), A16 P3.3/LCD3 (io), A17 P3.2/LCD2 (io), A18 P3.1/LCD1 (io), A19 P3.0/LCD0 (io), A20 P2.7/COM3 (io), A21 P2.6/COM2 (io), A22 P2.5/COM1 (io), A23 P2.4/COM0 (io), A24 P2.3 (io) "Port 2.3. See Port I/O Section for a complete description.", A25 P2.2 (io) "Port 2.2. See Port I/O Section for a complete description.", A26 P2.1 (io) "Port 2.1. See Port I/O Section for a complete description.", A27 P2.0 (io) "Port 2.0. See Port I/O Section for a complete description.", A28 P1.7 (io) "Port 1.7. See Port I/O Section for a complete description.", A29 P1.6 (io) "Port 1.6. See Port I/O Section for a complete description.", A30 P1.5 (io) "Port 1.5. See Port I/O Section for a complete description.", A31 P1.4 (io) "Port 1.4. See Port I/O Section for a complete description.", A33 P1.3/XTAL4 (io), A34 P1.2/XTAL3 (io), A35 P1.1/PC1 (io), A36 P1.0/PC0 (io), A37 P0.7/IREF0 (io), A38 P0.6/CNVSTR (io), A39 P0.5/RX (io), A40 P0.4/TX (io), B1 P4.3/LCD11 (io), B2 P4.2/LCD10 (io), B3 P4.1/LCD9 (io), B8 P6.6/LCD30 (io), B9 P6.5/LCD29 (io), B10 P6.4/LCD28 (io), B11 P6.3/LCD27 (io), B12 P6.2/LCD26 (io), B13 P6.1/LCD25 (io), B14 P6.0/LCD24 (io), B15 P5.6/LCD22 (io), B21 P5.5/LCD21 (io), B22 P5.3/LCD19 (io), B23 P5.2/LCD18 (io), B24 P5.1/LCD17 (io), B25 P5.0/LCD16 (io), B26 P4.7/LCD15 (io), B27 P4.6/LCD14 (io), B28 P4.5/LCD13 (io), D1 P4.4/LCD12 (io), D2 P6.7/LCD31 (io), D3 P5.7/LCD23 (io), D4 P5.4/LCD20 (io)
part B pins: A5 VBAT (power) "Battery Supply Voltage. Must be 1.8 to 3.6 V.", A6 VBATDC (power) "DC0 Input Voltage. Must be 1.8 to 3.6 V.", A7 GNDDC (power) "DC-DC converter return current path. This pin is typically tied to the ground plane.", A8 VDC (power) "Alternate Power Supply Voltage. Must be 1.8 to 3.6V. This supply voltage must always be <= VBAT. Software may select this supply voltage to power the digital logic. Positive output of the dc-dc converter. A 1uF to 10u(See Datasheet)", A32 VLCD (power) "CD Power Supply. This pin requires a 10 uF capacitor to stabilize the charge pump.", B4 VIO (power) "I/O Power Supply for P0.0-P1.4 and P2.4-P7.0 pins. This supply voltage must always be <= VBAT.", B5 IND "DC-DC Inductor Pin. This pin requires a 560 nH inductor to VDC if the dc-dc converter is used.", B6 GND (power) "DC-DC converter return current path. This pin is typically tied to the ground plane.", B7 VIORF (power) "I/O Power Supply for P1.5-P2.3 pins. This supply voltage must always be <= VBAT.", D9 EP
part C pins: B16 NC, B17 NC, B18 NC, B19 NC, B20 NC, D5 NC, D6 NC, D7 NC, D8 NC

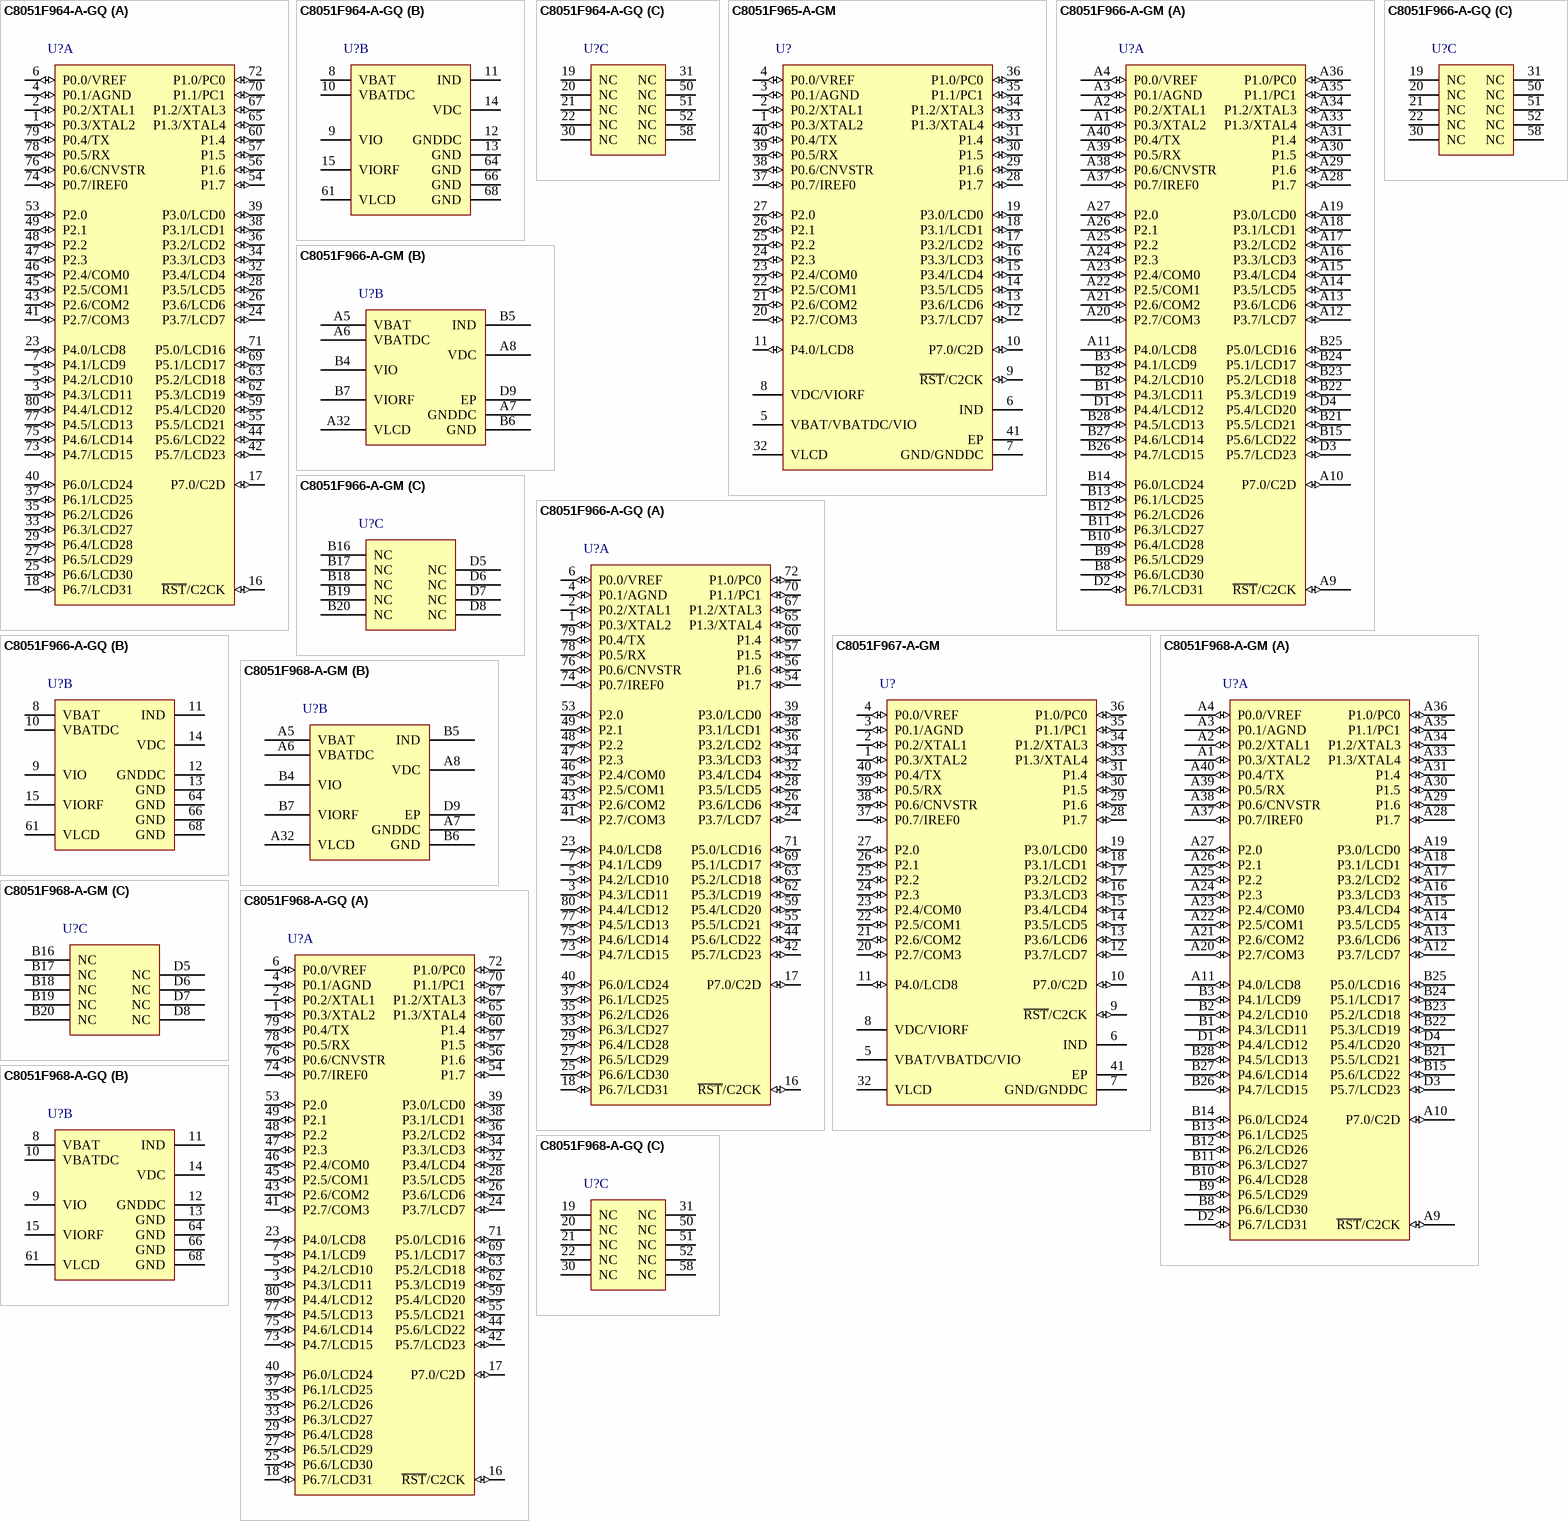
[diagram p2: symbols C8051F964-A-GQ to C8051F968-A-GQ]

## C8051F964-A-GQ
designator U?
Ultra Low Power, LCD MCU Family, 25 MHz, 8.25 kB RAM, 64 kB Flash, -40 to 85 degC, 80-pin QFP; Manufacturer: Silicon Labs; PartNumber: C8051F964-A-GQ; ADC 1: 12-bit, 16-ch., 75 ksps; AEC-Q100: FALSE; Comparators: 2; Debug Interface: C2; Dig I/O Pins: 57; Flash: 64 kB; Internal Osc. Accuracy: +/-2%; MCU Core: 8051; MHz: 25; PCA Channels: 6; RAM: 8.25 KB; Temp Sensor: TRUE; Timers (16-bit): 4; Sub-Family: Low-Power MCUs; DatasheetVersion: Rev. 0.5; PackageReference: TQFP-80; PackageDescription: 80-Pin Thin Quad Flat Package, Body 12 x 12 mm, Pitch 0.5 mm; Supplier 1: Digi-Key; Supplier Part Number 1: 336-2252-5-ND; Supplier 2: Mouser; Supplier Part Number 2: 634-C8051F964-A-GQ; Mounting Technology: Surface Mount; Code_JEDEC: MS-026; Code_IPC: J-STD-020; ComponentLink1Description: Manufacturer URL; ComponentLink1URL: http://www.silabs.com/; ComponentLink2Description: Datasheet; ComponentLink2URL: http://www.silabs.com/Support%20Documents/TechnicalDocs/C8051F96x.pdf; ComponentLink3Description: Package Specification; ComponentLink3URL: http://www.silabs.com/Support%20Documents/TechnicalDocs/SiM3L1xx.pdf
footprint SLAB-TQFP-80_N (QFP, 80-Leads, Body 12x12mm, Pitch 0.5mm, IPC Medium Density)
footprint SLAB-TQFP-80_L (QFP, 80-Leads, Body 12x12mm, Pitch 0.5mm, IPC High Density)
footprint SLAB-TQFP-80_M (QFP, 80-Leads, Body 12x12mm, Pitch 0.5mm, IPC Low Density)
part A pins: 1 P0.3/XTAL2 (io), 2 P0.2/XTAL1 (io), 3 P4.3/LCD11 (io), 4 P0.1/AGND (io), 5 P4.2/LCD10 (io), 6 P0.0/VREF (io), 7 P4.1/LCD9 (io), 16 ~{RST}/C2CK (io), 17 P7.0/C2D (io), 18 P6.7/LCD31 (io), 23 P4.0/LCD8 (io), 24 P3.7/LCD7 (io), 25 P6.6/LCD30 (io), 26 P3.6/LCD6 (io), 27 P6.5/LCD29 (io), 28 P3.5/LCD5 (io), 29 P6.4/LCD28 (io), 32 P3.4/LCD4 (io), 33 P6.3/LCD27 (io), 34 P3.3/LCD3 (io), 35 P6.2/LCD26 (io), 36 P3.2/LCD2 (io), 37 P6.1/LCD25 (io), 38 P3.1/LCD1 (io), 39 P3.0/LCD0 (io), 40 P6.0/LCD24 (io), 41 P2.7/COM3 (io), 42 P5.7/LCD23 (io), 43 P2.6/COM2 (io), 44 P5.6/LCD22 (io), 45 P2.5/COM1 (io), 46 P2.4/COM0 (io), 47 P2.3 (io) "Port 2.3. See Port I/O Section for a complete description.", 48 P2.2 (io) "Port 2.2. See Port I/O Section for a complete description.", 49 P2.1 (io) "Port 2.1. See Port I/O Section for a complete description.", 53 P2.0 (io) "Port 2.0. See Port I/O Section for a complete description.", 54 P1.7 (io) "Port 1.7. See Port I/O Section for a complete description.", 55 P5.5/LCD21 (io), 56 P1.6 (io) "Port 1.6. See Port I/O Section for a complete description.", 57 P1.5 (io) "Port 1.5. See Port I/O Section for a complete description.", 59 P5.4/LCD20 (io), 60 P1.4 (io) "Port 1.4. See Port I/O Section for a complete description.", 62 P5.3/LCD19 (io), 63 P5.2/LCD18 (io), 65 P1.3/XTAL4 (io), 67 P1.2/XTAL3 (io), 69 P5.1/LCD17 (io), 70 P1.1/PC1 (io), 71 P5.0/LCD16 (io), 72 P1.0/PC0 (io), 73 P4.7/LCD15 (io), 74 P0.7/IREF0 (io), 75 P4.6/LCD14 (io), 76 P0.6/CNVSTR (io), 77 P4.5/LCD13 (io), 78 P0.5/RX (io), 79 P0.4/TX (io), 80 P4.4/LCD12 (io)
part B pins: 8 VBAT (power) "Battery Supply Voltage. Must be 1.8 to 3.6 V.", 9 VIO (power) "I/O Power Supply for P0.0-P1.4 and P2.4-P7.0 pins. This supply voltage must always be <= VBAT.", 10 VBATDC (power) "DC0 Input Voltage. Must be 1.8 to 3.6 V.", 11 IND "DC-DC Inductor Pin. This pin requires a 560 nH inductor to VDC if the dc-dc converter is used.", 12 GNDDC (power) "DC-DC converter return current path. This pin is typically tied to the ground plane.", 13 GND (power) "Required Ground.", 14 VDC (power) "Alternate Power Supply Voltage. Must be 1.8 to 3.6V. This supply voltage must always be ? VBAT. Software may select this supply voltage to power the digital logic. Positive output of the dc-dc converter. A 1uF to 10u(See Datasheet)", 15 VIORF (power) "I/O Power Supply for P1.5-P2.3 pins. This supply voltage must always be <= VBAT.", 61 VLCD (power) "CD Power Supply. This pin requires a 10 uF capacitor to stabilize the charge pump.", 64 GND (power) "Required Ground.", 66 GND (power) "Required Ground.", 68 GND (power) "Required Ground."
part C pins: 19 NC, 20 NC, 21 NC, 22 NC, 30 NC, 31 NC, 50 NC, 51 NC, 52 NC, 58 NC

## C8051F965-A-GM
designator U?
Ultra Low Power, LCD MCU Family, 25 MHz, 8.25 kB RAM, 64 kB Flash, -40 to 85 degC, 40-pin QFN; Manufacturer: Silicon Labs; PartNumber: C8051F965-A-GM; ADC 1: 12-bit, 16-ch., 75 ksps; AEC-Q100: FALSE; Comparators: 2; Debug Interface: C2; Dig I/O Pins: 34; Flash: 64 kB; Internal Osc. Accuracy: +/-2%; MCU Core: 8051; MHz: 25; PCA Channels: 6; RAM: 8.25 KB; Temp Sensor: TRUE; Timers (16-bit): 4; Sub-Family: Low-Power MCUs; DatasheetVersion: Rev. 0.5; PackageReference: QFN-40; PackageDescription: 40-Pin Quad-Flat No-Leads Package, Body 6 x 6 mm, Pitch 0.5 mm; Supplier 1: Digi-Key; Supplier Part Number 1: 336-2243-ND; Supplier 2: Mouser; Supplier Part Number 2: 634-C8051F965-A-GM; Mounting Technology: Surface Mount; Code_JEDEC: MO-220; Code_IPC: J-STD-020; ComponentLink1Description: Manufacturer URL; ComponentLink1URL: http://www.silabs.com/; ComponentLink2Description: Datasheet; ComponentLink2URL: http://www.silabs.com/Support Documents/TechnicalDocs/C8051F96x.pdf; ComponentLink3Description: Package Specification; ComponentLink3URL: http://www.silabs.com/Support Documents/TechnicalDocs/C8051F50x-51x.pdf
footprint SLAB-QFN-40-4100x4100TP_N (QFN, 40-Leads, Body 6x6mm, Pitch 0.5mm, Thermal Pad 4.1x4.1mm, IPC Medium Density)
footprint SLAB-QFN-40-4100x4100TP_L (QFN, 40-Leads, Body 6x6mm, Pitch 0.5mm, Thermal Pad 4.1x4.1mm, IPC High Density)
footprint SLAB-QFN-40-4100x4100TP_M (QFN, 40-Leads, Body 6x6mm, Pitch 0.5mm, Thermal Pad 4.1x4.1mm, IPC Low Density)
pins: 1 P0.3/XTAL2 (io), 2 P0.2/XTAL1 (io), 3 P0.1/AGND (io), 4 P0.0/VREF (io), 5 VBAT/VBATDC/VIO (power), 6 IND "DC-DC Inductor Pin. This pin requires a 560 nH inductor to VDC if the dc-dc converter is used.", 7 GND/GNDDC (power) "DC-DC converter return current path. This pin is typically tied to the ground plane.", 8 VDC/VIORF (power), 9 ~{RST}/C2CK (io), 10 P7.0/C2D (io), 11 P4.0/LCD8 (io), 12 P3.7/LCD7 (io), 13 P3.6/LCD6 (io), 14 P3.5/LCD5 (io), 15 P3.4/LCD4 (io), 16 P3.3/LCD3 (io), 17 P3.2/LCD2 (io), 18 P3.1/LCD1 (io), 19 P3.0/LCD0 (io), 20 P2.7/COM3 (io), 21 P2.6/COM2 (io), 22 P2.5/COM1 (io), 23 P2.4/COM0 (io), 24 P2.3 (io) "Port 2.3. See Port I/O Section for a complete description.", 25 P2.2 (io) "Port 2.2. See Port I/O Section for a complete description.", 26 P2.1 (io) "Port 2.1. See Port I/O Section for a complete description.", 27 P2.0 (io) "Port 2.0. See Port I/O Section for a complete description.", 28 P1.7 (io) "Port 1.7. See Port I/O Section for a complete description.", 29 P1.6 (io) "Port 1.6. See Port I/O Section for a complete description.", 30 P1.5 (io) "Port 1.5. See Port I/O Section for a complete description.", 31 P1.4 (io) "Port 1.4. See Port I/O Section for a complete description.", 32 VLCD (power) "CD Power Supply. This pin requires a 10 uF capacitor to stabilize the charge pump.", 33 P1.3/XTAL4 (io), 34 P1.2/XTAL3 (io), 35 P1.1/PC1 (io), 36 P1.0/PC0 (io), 37 P0.7/IREF0 (io), 38 P0.6/CNVSTR (io), 39 P0.5/RX (io), 40 P0.4/TX (io), 41 EP (power)

## C8051F966-A-GM
designator U?
Ultra Low Power, LCD MCU Family, 25 MHz, 8.25 kB RAM, 32 kB Flash, -40 to 85 degC, 76-pin DQFN; Manufacturer: Silicon Labs; PartNumber: C8051F966-A-GM; ADC 1: 12-bit, 16-ch., 75 ksps; AEC-Q100: FALSE; Comparators: 2; Debug Interface: C2; Dig I/O Pins: 57; Flash: 32 kB; Internal Osc. Accuracy: +/-2%; MCU Core: 8051; MHz: 25; PCA Channels: 6; RAM: 8.25 KB; Temp Sensor: TRUE; Timers (16-bit): 4; Sub-Family: Low-Power MCUs; DatasheetVersion: Rev. 0.5; PackageReference: DQFN-76; PackageDescription: 76-Pin DQFN, Body 6 x 6 mm, Pitch 0.5 mm; Supplier 1: Digi-Key; Supplier Part Number 1: 336-2244-ND; Supplier 2: Mouser; Supplier Part Number 2: 634-C8051F966-A-GM; Mounting Technology: Surface Mount; Code_IPC: J-STD-020; ComponentLink1Description: Manufacturer URL; ComponentLink1URL: http://www.silabs.com/; ComponentLink2Description: Datasheet; ComponentLink2URL: http://www.silabs.com/Support Documents/TechnicalDocs/C8051F96x.pdf; ComponentLink3Description: Package Specification; ComponentLink3URL: http://www.silabs.com/Support%20Documents/TechnicalDocs/C8051F96x.pdf
footprint SLAB-DQFN-76-3100x3100TP_V (DQFN, 76-Leads, Body 6x6mm, Pitch 0.5mm, Thermal Pad 3.2x3.2mm)
part A pins: A1 P0.3/XTAL2 (io), A2 P0.2/XTAL1 (io), A3 P0.1/AGND (io), A4 P0.0/VREF (io), A9 ~{RST}/C2CK (io), A10 P7.0/C2D (io), A11 P4.0/LCD8 (io), A12 P3.7/LCD7 (io), A13 P3.6/LCD6 (io), A14 P3.5/LCD5 (io), A15 P3.4/LCD4 (io), A16 P3.3/LCD3 (io), A17 P3.2/LCD2 (io), A18 P3.1/LCD1 (io), A19 P3.0/LCD0 (io), A20 P2.7/COM3 (io), A21 P2.6/COM2 (io), A22 P2.5/COM1 (io), A23 P2.4/COM0 (io), A24 P2.3 (io) "Port 2.3. See Port I/O Section for a complete description.", A25 P2.2 (io) "Port 2.2. See Port I/O Section for a complete description.", A26 P2.1 (io) "Port 2.1. See Port I/O Section for a complete description.", A27 P2.0 (io) "Port 2.0. See Port I/O Section for a complete description.", A28 P1.7 (io) "Port 1.7. See Port I/O Section for a complete description.", A29 P1.6 (io) "Port 1.6. See Port I/O Section for a complete description.", A30 P1.5 (io) "Port 1.5. See Port I/O Section for a complete description.", A31 P1.4 (io) "Port 1.4. See Port I/O Section for a complete description.", A33 P1.3/XTAL4 (io), A34 P1.2/XTAL3 (io), A35 P1.1/PC1 (io), A36 P1.0/PC0 (io), A37 P0.7/IREF0 (io), A38 P0.6/CNVSTR (io), A39 P0.5/RX (io), A40 P0.4/TX (io), B1 P4.3/LCD11 (io), B2 P4.2/LCD10 (io), B3 P4.1/LCD9 (io), B8 P6.6/LCD30 (io), B9 P6.5/LCD29 (io), B10 P6.4/LCD28 (io), B11 P6.3/LCD27 (io), B12 P6.2/LCD26 (io), B13 P6.1/LCD25 (io), B14 P6.0/LCD24 (io), B15 P5.6/LCD22 (io), B21 P5.5/LCD21 (io), B22 P5.3/LCD19 (io), B23 P5.2/LCD18 (io), B24 P5.1/LCD17 (io), B25 P5.0/LCD16 (io), B26 P4.7/LCD15 (io), B27 P4.6/LCD14 (io), B28 P4.5/LCD13 (io), D1 P4.4/LCD12 (io), D2 P6.7/LCD31 (io), D3 P5.7/LCD23 (io), D4 P5.4/LCD20 (io)
part B pins: A5 VBAT (power) "Battery Supply Voltage. Must be 1.8 to 3.6 V.", A6 VBATDC (power) "DC0 Input Voltage. Must be 1.8 to 3.6 V.", A7 GNDDC (power) "DC-DC converter return current path. This pin is typically tied to the ground plane.", A8 VDC (power) "Alternate Power Supply Voltage. Must be 1.8 to 3.6V. This supply voltage must always be <= VBAT. Software may select this supply voltage to power the digital logic. Positive output of the dc-dc converter. A 1uF to 10u(See Datasheet)", A32 VLCD (power) "CD Power Supply. This pin requires a 10 uF capacitor to stabilize the charge pump.", B4 VIO (power) "I/O Power Supply for P0.0-P1.4 and P2.4-P7.0 pins. This supply voltage must always be <= VBAT.", B5 IND "DC-DC Inductor Pin. This pin requires a 560 nH inductor to VDC if the dc-dc converter is used.", B6 GND (power) "DC-DC converter return current path. This pin is typically tied to the ground plane.", B7 VIORF (power) "I/O Power Supply for P1.5-P2.3 pins. This supply voltage must always be <= VBAT.", D9 EP
part C pins: B16 NC, B17 NC, B18 NC, B19 NC, B20 NC, D5 NC, D6 NC, D7 NC, D8 NC

## C8051F966-A-GQ
designator U?
Ultra Low Power, LCD MCU Family, 25 MHz, 8.25 kB RAM, 32 kB Flash, -40 to 85 degC, 80-pin QFP; Manufacturer: Silicon Labs; PartNumber: C8051F966-A-GQ; ADC 1: 12-bit, 16-ch., 75 ksps; AEC-Q100: FALSE; Comparators: 2; Debug Interface: C2; Dig I/O Pins: 57; Flash: 32 kB; Internal Osc. Accuracy: +/-2%; MCU Core: 8051; MHz: 25; PCA Channels: 6; RAM: 8.25 KB; Temp Sensor: TRUE; Timers (16-bit): 4; Sub-Family: Low-Power MCUs; DatasheetVersion: Rev. 0.5; PackageReference: TQFP-80; PackageDescription: 80-Pin Thin Quad Flat Package, Body 12 x 12 mm, Pitch 0.5 mm; Supplier 1: Digi-Key; Supplier Part Number 1: 336-2251-5-ND; Supplier 2: Mouser; Supplier Part Number 2: 634-C8051F966-A-GQ; Mounting Technology: Surface Mount; Code_JEDEC: MS-026; Code_IPC: J-STD-020; ComponentLink1Description: Manufacturer URL; ComponentLink1URL: http://www.silabs.com/; ComponentLink2Description: Datasheet; ComponentLink2URL: http://www.silabs.com/Support%20Documents/TechnicalDocs/C8051F96x.pdf; ComponentLink3Description: Package Specification; ComponentLink3URL: http://www.silabs.com/Support%20Documents/TechnicalDocs/SiM3L1xx.pdf
footprint SLAB-TQFP-80_N (QFP, 80-Leads, Body 12x12mm, Pitch 0.5mm, IPC Medium Density)
footprint SLAB-TQFP-80_L (QFP, 80-Leads, Body 12x12mm, Pitch 0.5mm, IPC High Density)
footprint SLAB-TQFP-80_M (QFP, 80-Leads, Body 12x12mm, Pitch 0.5mm, IPC Low Density)
part A pins: 1 P0.3/XTAL2 (io), 2 P0.2/XTAL1 (io), 3 P4.3/LCD11 (io), 4 P0.1/AGND (io), 5 P4.2/LCD10 (io), 6 P0.0/VREF (io), 7 P4.1/LCD9 (io), 16 ~{RST}/C2CK (io), 17 P7.0/C2D (io), 18 P6.7/LCD31 (io), 23 P4.0/LCD8 (io), 24 P3.7/LCD7 (io), 25 P6.6/LCD30 (io), 26 P3.6/LCD6 (io), 27 P6.5/LCD29 (io), 28 P3.5/LCD5 (io), 29 P6.4/LCD28 (io), 32 P3.4/LCD4 (io), 33 P6.3/LCD27 (io), 34 P3.3/LCD3 (io), 35 P6.2/LCD26 (io), 36 P3.2/LCD2 (io), 37 P6.1/LCD25 (io), 38 P3.1/LCD1 (io), 39 P3.0/LCD0 (io), 40 P6.0/LCD24 (io), 41 P2.7/COM3 (io), 42 P5.7/LCD23 (io), 43 P2.6/COM2 (io), 44 P5.6/LCD22 (io), 45 P2.5/COM1 (io), 46 P2.4/COM0 (io), 47 P2.3 (io) "Port 2.3. See Port I/O Section for a complete description.", 48 P2.2 (io) "Port 2.2. See Port I/O Section for a complete description.", 49 P2.1 (io) "Port 2.1. See Port I/O Section for a complete description.", 53 P2.0 (io) "Port 2.0. See Port I/O Section for a complete description.", 54 P1.7 (io) "Port 1.7. See Port I/O Section for a complete description.", 55 P5.5/LCD21 (io), 56 P1.6 (io) "Port 1.6. See Port I/O Section for a complete description.", 57 P1.5 (io) "Port 1.5. See Port I/O Section for a complete description.", 59 P5.4/LCD20 (io), 60 P1.4 (io) "Port 1.4. See Port I/O Section for a complete description.", 62 P5.3/LCD19 (io), 63 P5.2/LCD18 (io), 65 P1.3/XTAL4 (io), 67 P1.2/XTAL3 (io), 69 P5.1/LCD17 (io), 70 P1.1/PC1 (io), 71 P5.0/LCD16 (io), 72 P1.0/PC0 (io), 73 P4.7/LCD15 (io), 74 P0.7/IREF0 (io), 75 P4.6/LCD14 (io), 76 P0.6/CNVSTR (io), 77 P4.5/LCD13 (io), 78 P0.5/RX (io), 79 P0.4/TX (io), 80 P4.4/LCD12 (io)
part B pins: 8 VBAT (power) "Battery Supply Voltage. Must be 1.8 to 3.6 V.", 9 VIO (power) "I/O Power Supply for P0.0-P1.4 and P2.4-P7.0 pins. This supply voltage must always be <= VBAT.", 10 VBATDC (power) "DC0 Input Voltage. Must be 1.8 to 3.6 V.", 11 IND "DC-DC Inductor Pin. This pin requires a 560 nH inductor to VDC if the dc-dc converter is used.", 12 GNDDC (power) "DC-DC converter return current path. This pin is typically tied to the ground plane.", 13 GND (power) "Required Ground.", 14 VDC (power) "Alternate Power Supply Voltage. Must be 1.8 to 3.6V. This supply voltage must always be ? VBAT. Software may select this supply voltage to power the digital logic. Positive output of the dc-dc converter. A 1uF to 10u(See Datasheet)", 15 VIORF (power) "I/O Power Supply for P1.5-P2.3 pins. This supply voltage must always be <= VBAT.", 61 VLCD (power) "CD Power Supply. This pin requires a 10 uF capacitor to stabilize the charge pump.", 64 GND (power) "Required Ground.", 66 GND (power) "Required Ground.", 68 GND (power) "Required Ground."
part C pins: 19 NC, 20 NC, 21 NC, 22 NC, 30 NC, 31 NC, 50 NC, 51 NC, 52 NC, 58 NC